# Altium footprint library PCB1.PcbLib: 35 footprints (part 1 of 3)
Each footprint in its own frame and in the unit in brackets; x right, y up, seen from the top. Pads: shape width x height; smd on the part's side, far side on the other; paste and mask are expansions set on the pad; w line width, h text height; cw(c..) or ccw(c..) is an arc to the next point about the centre after c.
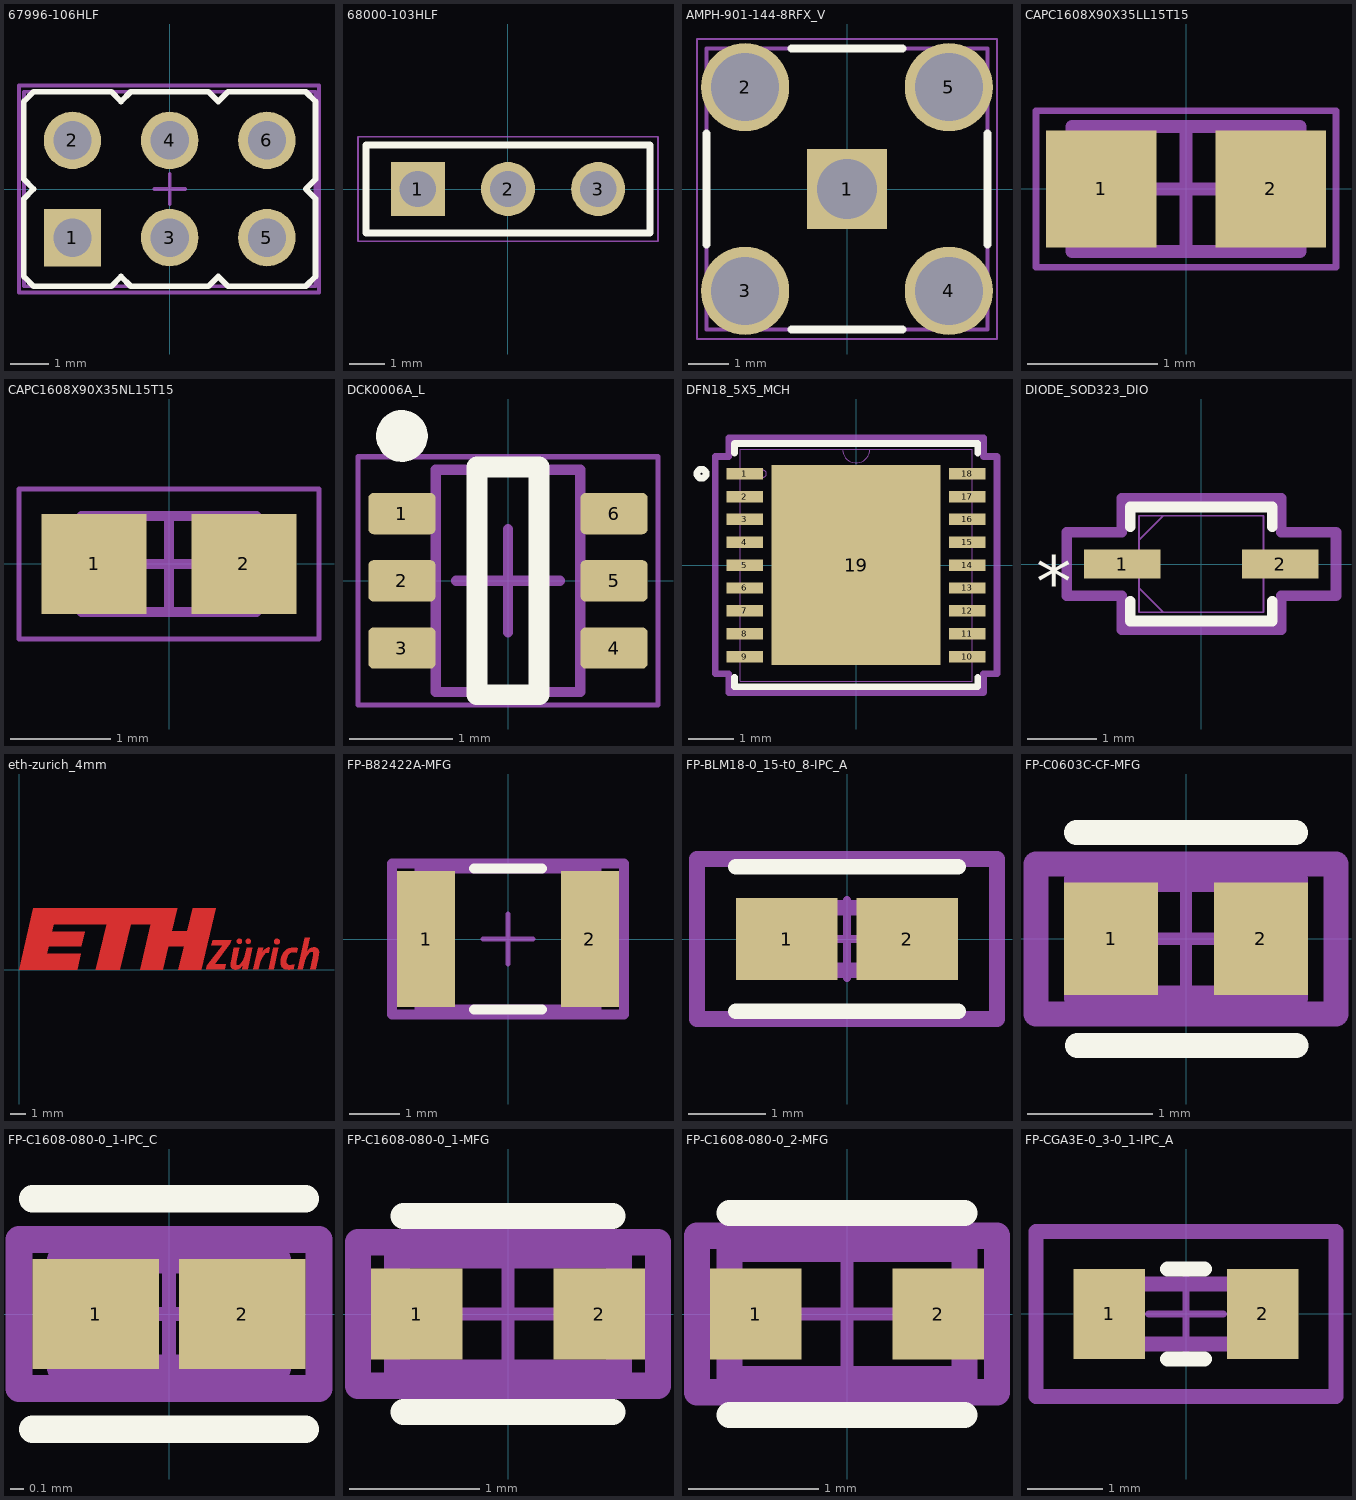
[diagram p0: the footprints below, top view; thin cyan lines are the x and y axes]

## 67996-106HLF [mm]
pads (6):
  rect 1.5x1.5 hole 1: 1(-2.54,-1.27)
  round 1.5 hole 1: 2(-2.54,1.27) 3(0,-1.27) 4(0,1.27) 5(2.54,-1.27) 6(2.54,1.27)
Top Overlay:
  lines w0.15: -3.81,-2.286 -3.556,-2.54 -1.524,-2.54 -1.27,-2.286 -1.016,-2.54 1.016,-2.54 1.27,-2.286 1.524,-2.54 3.556,-2.54 3.81,-2.286 3.81,-0.254 3.556,0 3.81,0.254 3.81,2.286 3.556,2.54 1.524,2.54 1.27,2.286 1.016,2.54 -1.016,2.54 -1.27,2.286 -1.524,2.54 -3.556,2.54 -3.81,2.286 -3.81,0.254 -3.556,0 -3.81,-0.254 -3.81,-2.286
Mechanical 12:
  lines w0.1: -3.81,-2.54 -1.27,-2.54 1.27,-2.54 3.81,-2.54 3.81,2.54 1.27,2.54 -1.27,2.54 -3.81,2.54 -3.81,-2.54
Top Courtyard:
  lines w0.1: -0.4,0 0.4,0 ; 0,-0.4 0,0.4 ; -3.937,-2.7 -1.11,-2.7 1.43,-2.7 3.9,-2.7 3.9,2.7 1.11,2.7 -1.43,2.7 -3.937,2.7 -3.937,-2.7
3D body "67996-106HLF.step": height 7.76, standoff -3.04, extent -3.81,-2.413 3.81,2.413

## 68000-103HLF [mm]
pads (3):
  rect 1.52x1.52 hole 1.02: 1(-2.54,0)
  round 1.52 hole 1.02: 2(0,0) 3(2.54,0)
Top Overlay:
  lines w0.2: -4,-1.245 -4,1.245 4,1.245 4,-1.245 -4,-1.245
Mechanical 12:
  lines w0.1: -4,1.245 -4,-1.245 4,-1.245 4,1.245 -4,1.245
Top Courtyard:
  lines w0.05: -0.254,0 0.254,0 ; 0,-0.254 0,0.254 ; -4.225,-1.47 -4.225,1.47 4.225,1.47 4.225,-1.47 -4.225,-1.47
  lines w0.1: -0.254,0 0.254,0 ; 0,-0.254 0,0.254
3D body "68000-103HLF.step": height 8.39, standoff -2.4, extent -3.81,-1.206 3.81,1.207

## AMPH-901-144-8RFX_V [mm]
pads (5):
  rect 2x2 hole 1.5: 1(0,0)
  round 2.2 hole 1.7: 2(-2.54,2.54) 3(-2.54,-2.54) 4(2.54,-2.54) 5(2.54,2.54)
Top Overlay:
  lines w0.2: -3.5,-1.38 -3.5,1.38 ; -1.38,-3.5 1.38,-3.5 ; -1.38,3.5 1.38,3.5 ; 3.5,-1.38 3.5,1.38
Top 3D Body:
  lines w0.1: -3.5,-3.5 3.5,-3.5 3.5,3.5 -3.5,3.5 -3.5,-3.5
Top Courtyard:
  lines w0.05: -3.74,-3.74 3.74,-3.74 3.74,3.74 -3.74,3.74 -3.74,-3.74
  lines w0.1: -0.5,0 0.5,0 ; 0,-0.5 0,0.5
3D body: height 9.53, standoff 0, extent -3.55,-3.55 3.55,3.55

## CAPC1608X90X35LL15T15 [mm]
pads (2):
  rect 0.85x0.9 smd: 1(-0.65,0) 2(0.65,0)
Top 3D Body:
  lines w0.1: -0.875,-0.48 0.875,-0.48 0.875,0.48 -0.875,0.48 -0.875,-0.48
Top Courtyard:
  lines w0.05: -1.15,-0.6 1.15,-0.6 1.15,0.6 -1.15,0.6 -1.15,-0.6
  lines w0.1: -0.48,0 0.48,0 ; 0,-0.48 0,0.48
3D body: height 0.9, standoff 0, extent 0.525,-0.48 0.875,0.48
3D body: height 0.9, standoff 0, extent -0.875,-0.48 -0.525,0.48
3D body: height 0.9, standoff 0, extent -0.525,-0.48 0.525,0.48

## CAPC1608X90X35NL15T15 [mm]
pads (2):
  rect 1.05x1 smd: 1(-0.75,0) 2(0.75,0)
Top 3D Body:
  lines w0.1: -0.875,-0.48 -0.875,0.48 0.875,0.48 0.875,-0.48 -0.875,-0.48
Top Courtyard:
  lines w0.05: -1.5,-0.75 -1.5,0.75 1.5,0.75 1.5,-0.75 -1.5,-0.75
  lines w0.1: -0.48,0 0.48,0 ; 0,-0.48 0,0.48
3D body: height 0.9, standoff 0, extent -0.525,-0.48 0.525,0.48
3D body: height 0.9, standoff 0, extent -0.875,-0.48 -0.525,0.48
3D body: height 0.9, standoff 0, extent 0.525,-0.48 0.875,0.48

## DCK0006A_L [mm]
pads (6):
  rrect25% 0.65x0.4 smd: 1(-1.025,0.65) 2(-1.025,0) 3(-1.025,-0.65) 4(1.025,-0.65) 5(1.025,0) 6(1.025,0.65)
Top Overlay:
  circle w0.25: c-1.025,1.4 r0.125
  lines w0.2: -0.3,-1.1 -0.3,1.1 0.3,1.1 0.3,-1.1 -0.3,-1.1
Mechanical 1:
  text ".Designator" at -0.635,-0.127 h0.75
Top 3D Body:
  lines w0.1: -0.7,-1.075 0.7,-1.075 0.7,1.075 -0.7,1.075 -0.7,-1.075
Top Courtyard:
  lines w0.05: -1.45,-1.2 1.45,-1.2 1.45,1.2 -1.45,1.2 -1.45,-1.2
  lines w0.1: -0.5,0 0.5,0 ; 0,-0.5 0,0.5
3D body "DCK0006AakaMAA06.stp": height 0.94, standoff -0.01, extent -1.14,-1 1.14,1

## DFN18_5X5_MCH [mil]
pads (19):
  rect 31.81x10.03 smd paste+0 mask+0: 1(-97.41,80) 2(-97.41,60) 3(-97.41,40) 4(-97.41,20) 5(-97.41,0) 6(-97.41,-20) 7(-97.41,-40) 8(-97.41,-60) 9(-97.41,-80) 10(97.41,-80) 11(97.41,-60) 12(97.41,-40) 13(97.41,-20) 14(97.41,0) 15(97.41,20) 16(97.41,40) 17(97.41,60) 18(97.41,80)
  rect 148x175 smd paste+0 mask+0: 19(0,0)
Top Overlay:
  circle w6: c-135.31,80 r4
  lines w6: -106.5,-98.12 -106.5,-106.5 106.5,-106.5 106.5,-98.12 ; -106.5,98.12 -106.5,106.5 106.5,106.5 106.5,98.12
Top Paste:
  region: 70.06,-33.1 3.94,-33.1 3.94,-83.56 70.06,-83.56
  region: 70.06,25.23 3.94,25.23 3.94,-25.23 70.06,-25.23
  region: 70.06,83.56 3.94,83.56 3.94,33.1 70.06,33.1
  region: -3.94,-33.1 -70.06,-33.1 -70.06,-83.56 -3.94,-83.56
  region: -3.94,25.23 -70.06,25.23 -70.06,-25.23 -3.94,-25.23
  region: -3.94,83.56 -70.06,83.56 -70.06,33.1 -3.94,33.1
Top 3D Body:
  circle w0: c-81.5,80 r3
  lines w0: -12,101.5 ccw(c0,101.5) 12,101.5
  lines w1: -101.5,-101.5 -101.5,101.5 101.5,101.5 101.5,-101.5 -101.5,-101.5
Top Courtyard:
  lines w6: -123.31,-95.02 -111.5,-95.02 -111.5,-111.5 111.5,-111.5 111.5,-95.02 123.31,-95.02 123.31,95.02 111.5,95.02 111.5,111.5 -111.5,111.5 -111.5,95.02 -123.31,95.02 -123.31,-95.02
3D body "DFN18_5X5_MCH.step": height 39.09, standoff 0, extent -101.5,-101.5 101.5,101.5

## DIODE_SOD323_DIO [mil]
pads (2):
  rect 43.56x16.36 smd paste+0 mask+0: 1(-45,0) 2(45,0)
Top Overlay:
  lines w6: -40.5,-21.28 -40.5,-32.5 40.5,-32.5 40.5,-21.28 ; -40.5,21.28 -40.5,32.5 40.5,32.5 40.5,21.28
  text "*" at -94.28,-25 h29.53
Top 3D Body:
  lines w1: -35.5,-13.75 -21.75,-27.5 ; -35.5,13.75 -21.75,27.5 ; -53,-7 -35.5,-7 -35.5,7 -53,7 -53,-7 ; -35.5,-27.5 -35.5,27.5 35.5,27.5 35.5,-27.5 -35.5,-27.5 ; 35.5,-7 53,-7 53,7 35.5,7 35.5,-7
  text "*" at -38,-25 h29.53
Top Courtyard:
  lines w6: -76.78,-18.18 -45.5,-18.18 -45.5,-37.5 45.5,-37.5 45.5,-18.18 76.78,-18.18 76.78,18.18 45.5,18.18 45.5,37.5 -45.5,37.5 -45.5,18.18 -76.78,18.18 -76.78,-18.18
3D body "DIODE_SOD323_DIO.step": height 47.09, standoff 0, extent -52.99,-27.48 52.99,27.48

## eth-zurich_4mm [mm]
Top Layer:
  circle w0.4: c16.798,1.83 r0.001
  circle w0.36: c14.924,1.852 r0.001
  circle w0.36: c14.352,1.852 r0.001
  region: 18.824,1.28 18.732,1.172 18.934,2.082 18.606,2.082 18.152,0.032 18.48,0.032 18.6,0.578 18.668,0.74 18.748,0.884 18.828,1.012 18.908,1.096 18.972,1.14 19.036,1.172 19.084,1.172 19.132,1.156 19.164,1.124 19.172,1.076 19.172,1.012 19.164,0.956 18.958,0.032 19.314,0.032 19.468,0.74 19.526,1.004 19.532,1.124 19.516,1.236 19.484,1.332 19.42,1.396 19.34,1.444 19.276,1.46 19.148,1.46 19.02,1.428 18.908,1.364
  region: 18.152,1.402 18.08,1.428 18,1.44 17.872,1.44 17.728,1.428 17.576,1.392 17.448,1.328 17.344,1.248 17.28,1.184 17.216,1.104 17.16,1.008 17.12,0.912 17.08,0.8 17.056,0.696 17.04,0.592 17.04,0.456 17.056,0.336 17.08,0.256 17.12,0.176 17.168,0.112 17.232,0.064 17.304,0.032 17.376,0.016 17.536,0 17.616,0 17.76,0.016 17.85,0.038 17.888,0.048 17.922,0.362 17.848,0.336 17.744,0.312 17.664,0.304 17.608,0.304 17.544,0.32 17.488,0.352 17.456,0.384 17.432,0.432 17.416,0.488 17.408,0.544 17.408,0.616 17.424,0.72 17.456,0.824 17.496,0.912 17.544,0.984 17.616,1.072 17.68,1.112 17.744,1.136 17.808,1.144 17.904,1.144 17.992,1.136 18.032,1.128 18.088,1.112
  region: 16.584,0.032 16.894,1.428 16.566,1.428 16.256,0.032
  region: 15.81,1.04 15.896,1.428 15.568,1.428 15.258,0.032 15.586,0.032 15.636,0.258 15.712,0.504 15.8,0.72 15.872,0.856 15.972,0.988 16.04,1.056 16.096,1.096 16.152,1.12 16.192,1.12 16.246,1.106 16.32,1.44 16.272,1.448 16.224,1.448 16.176,1.44 16.104,1.408 16.056,1.376 15.992,1.32 15.936,1.264 15.872,1.168
  region: 14.888,0.032 15.198,1.428 14.828,1.428 14.708,0.882 14.64,0.72 14.56,0.576 14.48,0.448 14.4,0.364 14.336,0.32 14.272,0.288 14.224,0.288 14.176,0.304 14.144,0.336 14.136,0.384 14.136,0.448 14.144,0.504 14.35,1.428 13.994,1.428 13.84,0.72 13.782,0.456 13.776,0.336 13.792,0.224 13.824,0.128 13.888,0.064 13.968,0.016 14.032,0 14.16,0 14.288,0.032 14.4,0.096 14.484,0.18 14.576,0.288 14.52,0.032
  region: 13.812,1.92 12.602,1.92 12.528,1.588 13.26,1.588 12.23,0.246 12.184,0.032 13.392,0.032 13.466,0.364 12.732,0.364 13.766,1.712
  region: 11.86,0 12.8,4 11.324,4 10.97,2.494 9.946,2.494 10.298,4 0.94,4 0,0 1.562,0 3.784,0 4.028,1.04 1.808,1.04 1.922,1.528 4.046,1.528 4.272,2.488 2.146,2.488 2.258,2.96 5.698,2.96 5,0 6.564,0 7.26,2.96 8.578,2.96 7.884,0 9.36,0 9.72,1.534 10.744,1.534 10.384,0
Top Solder:
  drawing of 10 lines, arcs and shapes, not listed

## FP-B82422A-MFG [mm]
pads (2):
  rect 1.15x2.7 smd paste+0 mask+0: 1(-1.625,0) 2(1.625,0)
Top Overlay:
  lines w0.2: -0.675,-1.4 0.675,-1.4 ; -0.675,1.4 0.675,1.4
Top Assembly:
  lines w0.2: -2.3,-1.5 2.3,-1.5 2.3,1.5 -2.3,1.5 -2.3,-1.5
  text ".Designator" at 0.12,0.37 h0.75
Top 3D Body:
  lines w0.2: -1.75,-1.4 1.75,-1.4 1.75,1.4 -1.75,1.4 -1.75,-1.4
Top Courtyard:
  lines w0.2: -2.3,-1.5 2.3,-1.5 2.3,1.5 -2.3,1.5 -2.3,-1.5
Top Component Center:
  lines w0.1: -0.5,0 0.5,0 ; 0,-0.5 0,0.5
3D body "Ind_EPCOS_B82422A1103K100_eec.STEP": height 2.1, standoff 0, extent -1.6,-1.25 1.6,1.25

## FP-BLM18-0_15-t0_8-IPC_A [mm]
pads (2):
  rect 1.306x1.058 smd paste+0 mask+0: 1(-0.776,0) 2(0.776,0)
Top Overlay:
  lines w0.2: -1.429,-0.929 1.429,-0.929 ; -1.429,0.929 1.429,0.929
Top Assembly:
  lines w0.2: -1.929,-1.029 -1.929,1.029 1.929,1.029 1.929,-1.029 -1.929,-1.029
  text ".Designator" at 0.12,0.37 h0.75
Top 3D Body:
  lines w0.2: -0.8,-0.4 -0.8,0.4 0.8,0.4 0.8,-0.4 -0.8,-0.4
Top Courtyard:
  lines w0.2: -1.929,-1.029 -1.929,1.029 1.929,1.029 1.929,-1.029 -1.929,-1.029
Top Component Center:
  lines w0.1: -0.5,0 0.5,0 ; 0,-0.5 0,0.5
3D body "FBead_Murata_BLM18EG221SN1D_eec.STEP": height 0.95, standoff 0, extent -0.8,-0.4 0.8,0.4

## FP-C0603C-CF-MFG [mm]
pads (2):
  rect 0.75x0.9 smd paste+0 mask+0: 1(-0.6,0) 2(0.6,0)
Top Overlay:
  lines w0.2: -0.875,0.85 0.875,0.85 ; -0.87,-0.853 0.88,-0.853
Top Assembly:
  lines w0.2: -1.2,-0.6 -1.2,0.6 1.2,0.6 1.2,-0.6 -1.2,-0.6
  text ".Designator" at 0.12,0.37 h0.75
Top 3D Body:
  lines w0.2: -0.875,-0.475 -0.875,0.475 0.875,0.475 0.875,-0.475 -0.875,-0.475
Top Courtyard:
  lines w0.2: -1.2,-0.6 -1.2,0.6 1.2,0.6 1.2,-0.6 -1.2,-0.6
Top Component Center:
  lines w0.1: -0.5,0 0.5,0 ; 0,-0.5 0,0.5
3D body "Cap_KEMET_C0603C272M5JACTU_eec.STEP": height 0.87, standoff 0, extent -0.8,-0.4 0.8,0.4

## FP-C1608-080-0_1-IPC_C [mm]
pads (2):
  rect 0.931x0.812 smd paste+0 mask+0: 1(-0.541,0) 2(0.541,0)
Top Overlay:
  lines w0.2: -1.006,-0.85 1.006,-0.85 ; -1.006,0.85 1.006,0.85
Top Assembly:
  lines w0.2: -1.106,-0.55 1.106,-0.55 1.106,0.55 -1.106,0.55 -1.106,-0.55
  text ".Designator" at 0,0.188 h1
Top 3D Body:
  lines w0.2: -0.8,-0.4 0.8,-0.4 0.8,0.4 -0.8,0.4 -0.8,-0.4
Top Courtyard:
  lines w0.2: -1.106,-0.55 1.106,-0.55 1.106,0.55 -1.106,0.55 -1.106,-0.55
Top Component Center:
  lines w0.1: -0.5,0 0.5,0 ; 0,-0.5 0,0.5
3D body "Cap_TDK_C1608X6S0G106K080AB_eec.STEP": height 0.25, standoff 0, extent -1.106,-0.55 1.106,0.55

## FP-C1608-080-0_1-MFG [mm]
pads (2):
  rect 0.7x0.7 smd paste+0 mask+0: 1(-0.7,0) 2(0.7,0)
Top Overlay:
  lines w0.2: -0.8,-0.75 0.8,-0.75 ; -0.8,0.75 0.8,0.75
Top Assembly:
  lines w0.2: -1.15,-0.55 1.15,-0.55 1.15,0.55 -1.15,0.55 -1.15,-0.55
  text ".Designator" at 0.12,0.37 h0.75
Top 3D Body:
  lines w0.2: -0.85,-0.45 0.85,-0.45 0.85,0.45 -0.85,0.45 -0.85,-0.45
Top Courtyard:
  lines w0.2: -1.15,-0.55 1.15,-0.55 1.15,0.55 -1.15,0.55 -1.15,-0.55
Top Component Center:
  lines w0.1: -0.5,0 0.5,0 ; 0,-0.5 0,0.5
3D body "Cap_TDK_C1608X6S0G106K080AB_eec.STEP": height 0.9, standoff 0, extent -0.8,-0.4 0.8,0.4

## FP-C1608-080-0_2-MFG [mm]
pads (2):
  rect 0.7x0.7 smd paste+0 mask+0: 1(-0.7,0) 2(0.7,0)
Top Overlay:
  lines w0.2: -0.9,-0.775 0.9,-0.775 ; -0.9,0.775 0.9,0.775
Top Assembly:
  lines w0.2: -1.15,-0.6 1.15,-0.6 1.15,0.6 -1.15,0.6 -1.15,-0.6
  text ".Designator" at 0.12,0.182 h0.75
Top 3D Body:
  lines w0.2: -0.9,-0.5 0.9,-0.5 0.9,0.5 -0.9,0.5 -0.9,-0.5
Top Courtyard:
  lines w0.2: -1.15,-0.6 1.15,-0.6 1.15,0.6 -1.15,0.6 -1.15,-0.6
Top Component Center:
  lines w0.1: -0.5,0 0.5,0 ; 0,-0.5 0,0.5

## FP-CGA3E-0_3-0_1-IPC_A [mm]
pads (2):
  rect 0.956x1.206 smd paste+0 mask+0: 1(-1.025,0) 2(1.025,0)
Top Overlay:
  lines w0.2: -0.247,-0.603 0.247,-0.603 ; -0.247,0.603 0.247,0.603
Top Assembly:
  lines w0.2: -2.003,-1.103 2.003,-1.103 2.003,1.103 -2.003,1.103 -2.003,-1.103
  text ".Designator" at 0,0.188 h1
Top 3D Body:
  lines w0.2: -0.8,-0.4 0.8,-0.4 0.8,0.4 -0.8,0.4 -0.8,-0.4
Top Courtyard:
  lines w0.2: -2.003,-1.103 2.003,-1.103 2.003,1.103 -2.003,1.103 -2.003,-1.103
Top Component Center:
  lines w0.1: -0.5,0 0.5,0 ; 0,-0.5 0,0.5
3D body "Cap_TDK_CGA3E3X7R1E334K080AB_eec.STEP": height 0.25, standoff 0, extent -2.003,-1.103 2.003,1.103